# Altium schematic symbol library ORH-B36G.SchLib: 1 symbol
Pins are listed as number, name and electrical type; pins without a type are passive.

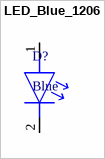
[diagram p0: symbol LED_Blue_1206]

## LED_Blue_1206
designator D?, comment Blue
-25℃~+80℃ 120mW 120° 2.6V~3.1V 28mcd 2mA 458nm~475nm 460nm Blue Discrete Diode Water Clear 0603 LED Indication - Discrete ROHS
footprint ORH-B36G (-25℃~+80℃ 120mW 120° 2.6V~3.1V 28mcd 2mA 458nm~475nm 460nm Blue Discrete Diode Water Clear 0603 LED Indication - Discrete ROHS)
pins: 1 A, 2 K